# Altium footprint library WS-SLSU.PcbLib: 2 footprints
Each footprint in its own frame and in the unit in brackets; x right, y up, seen from the top. Pads: shape width x height; smd on the part's side, far side on the other; paste and mask are expansions set on the pad; w line width, h text height; cw(c..) or ccw(c..) is an arc to the next point about the centre after c.
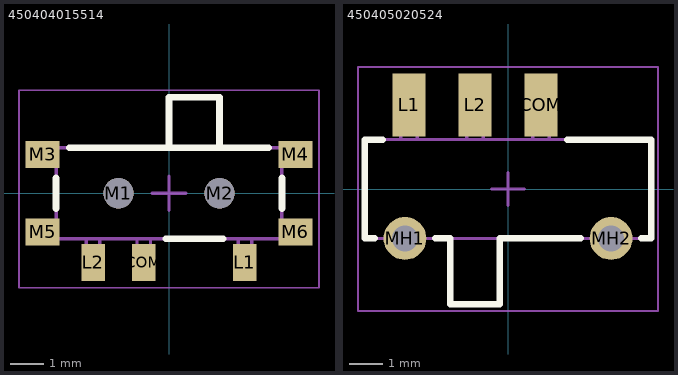
[diagram p0: the footprints below, top view; thin cyan lines are the x and y axes]

## 450404015514 [mm] "Right angle Slide Switch"
height 1.4
pads (9):
  rect 0.7x1.1 smd: COM(-0.75,-2.05) L1(2.25,-2.05) L2(-2.25,-2.05)
  round 0.9 hole 0.9 unplated: M1(-1.5,0) M2(1.5,0)
  rect 1x0.8 smd: M3(-3.75,1.15) M4(3.75,1.15) M5(-3.75,-1.15) M6(3.75,-1.15)
Top Overlay:
  lines w0.2: -3.35,-0.45 -3.35,0.45 ; -2.95,1.35 2.95,1.35 ; -0.1,-1.35 1.6,-1.35 ; 0,1.35 0,2.85 1.5,2.85 1.5,1.35 ; 3.35,-0.45 3.35,0.45
Top Assembly:
  lines w0.1: -3.35,-1.25 -3.85,-1.25 -3.85,-0.85 -3.35,-0.85 ; -3.35,0.85 -3.85,0.85 -3.85,1.25 -3.35,1.25 ; -2.45,-1.35 -2.45,-2.25 -2.05,-2.25 -2.05,-1.35 ; -0.95,-1.35 -0.95,-2.25 -0.55,-2.25 -0.55,-1.35 ; 0,1.35 0,2.85 1.5,2.85 1.5,1.35 ; 2.05,-1.35 2.05,-2.25 2.45,-2.25 2.45,-1.35 ; 3.35,-1.25 3.85,-1.25 3.85,-0.85 3.35,-0.85 ; 3.35,0.85 3.85,0.85 3.85,1.25 3.35,1.25 ; -3.35,-1.35 -3.35,1.35 3.35,1.35 3.35,-1.35 -3.35,-1.35
Top Designator:
  text ".Designator" at -3.647,-0.357 h1
Top Courtyard:
  lines w0.05: -4.45,-2.8 4.45,-2.8 4.45,3.05 -4.45,3.05 -4.45,-2.8
Top Component Center:
  lines w0.1: -0.5,0 0.5,0 ; 0,-0.5 0,0.5
3D body "450404015514.stp": height 1.4, standoff -0.5, extent -3.85,-2.25 3.85,2.88

## 450405020524 [mm] "SMT Mini Slide Switch, Same side connection"
height 2
pads (5):
  rect 1x1.9 smd: COM(1,2.55) L1(-3,2.55) L2(-1,2.55)
  round 1.3 hole 0.8: MH1(-3.125,-1.5) MH2(3.125,-1.5)
Top Overlay:
  lines w0.2: -4.05,-1.5 -4.35,-1.5 -4.35,1.5 -3.8,1.5 ; -2.2,-1.5 -1.75,-1.5 -1.75,-3.5 -0.25,-3.5 -0.25,-1.5 2.2,-1.5 ; 1.8,1.5 4.35,1.5 4.35,-1.5 4.05,-1.5
Top Assembly:
  lines w0.1: -3.25,1.5 -3.25,3 -2.75,3 -2.75,1.5 ; -1.75,-1.5 -1.75,-3.5 -0.25,-3.5 -0.25,-1.5 ; -1.25,1.5 -1.25,3 -0.75,3 -0.75,1.5 ; 0.75,1.5 0.75,3 1.25,3 1.25,1.5 ; -4.35,-1.5 4.35,-1.5 4.35,1.5 -4.35,1.5 -4.35,-1.5
Top Designator:
  text ".Designator" at -3.647,-0.357 h1
Top Courtyard:
  lines w0.05: -4.55,-3.7 -4.55,3.7 4.55,3.7 4.55,-3.7 -4.55,-3.7
Top Component Center:
  lines w0.1: -0.5,0 0.5,0 ; 0,-0.5 0,0.5
3D body "450405020524.stp": height 1.98, standoff -0.62, extent -4.45,-3.5 4.45,3.05